# Altium integrated library AES50_Library.IntLib: 3 symbols
Pins are listed as number, name and electrical type; pins without a type are passive.

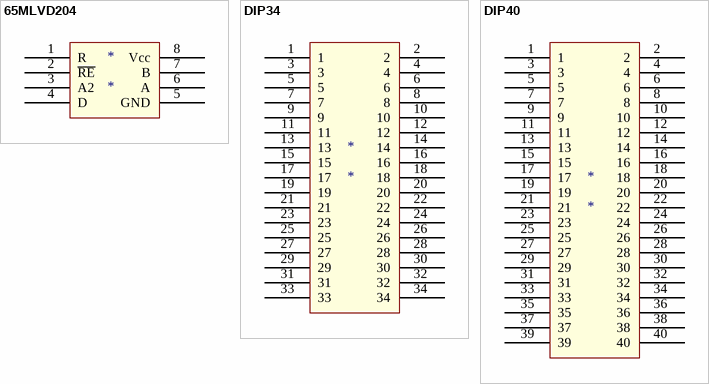
[diagram p0: symbols 65MLVD204 to DIP40]

## 65MLVD204
designator *
footprint SOIC-8
pins: 1 R, 2 ~{RE}, 3 A2, 4 D, 5 GND, 6 A, 7 B, 8 Vcc

## DIP34
designator *
footprint DIP34
pins: 1, 2, 3, 4, 5, 6, 7, 8, 9, 10, 11, 12, 13, 14, 15, 16, 17, 18, 19, 20, 21, 22, 23, 24, 25, 26, 27, 28, 29, 30, 31, 32, 33, 34

## DIP40
designator *
footprint DIP40
pins: 1, 2, 3, 4, 5, 6, 7, 8, 9, 10, 11, 12, 13, 14, 15, 16, 17, 18, 19, 20, 21, 22, 23, 24, 25, 26, 27, 28, 29, 30, 31, 32, 33, 34, 35, 36, 37, 38, 39, 40